# Altium footprint library 3D.PcbLib: 1 footprints
Each footprint in its own frame and in the unit in brackets; x right, y up, seen from the top. Pads: shape width x height; smd on the part's side, far side on the other; paste and mask are expansions set on the pad; w line width, h text height; cw(c..) or ccw(c..) is an arc to the next point about the centre after c.
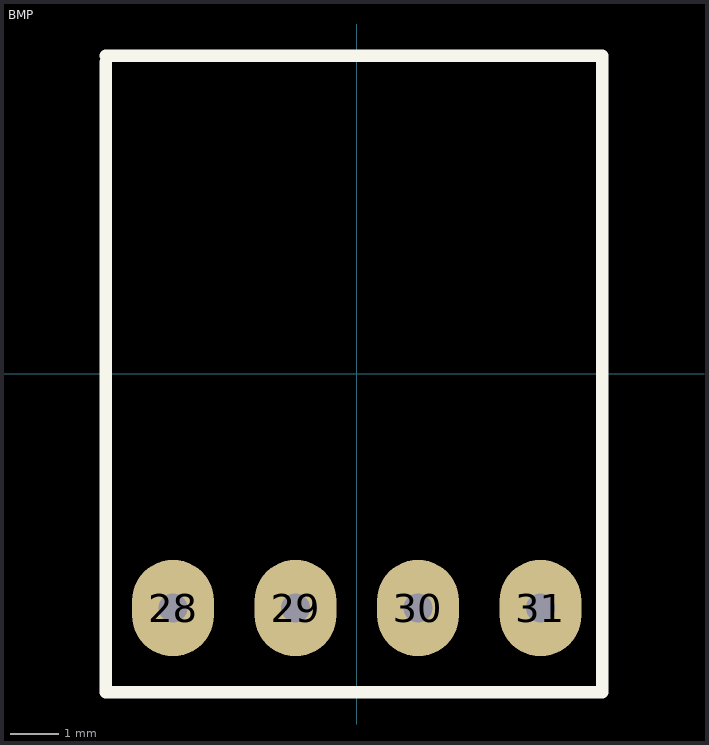
[diagram p0: the footprint, top view; thin cyan lines are the x and y axes]

## BMP [mm]
pads (4):
  oval 1.7x2 hole 0.6: 28(-3.81,-4.858) 29(-1.27,-4.858) 30(1.27,-4.858) 31(3.81,-4.858)
Top Overlay:
  lines w0.254: -5.207,6.469 -5.207,-6.604 5.093,-6.604 5.093,6.596 -5.207,6.596
3D body "bmp180.SLDPRT": height 1.66, standoff -1, extent -5.334,-5.842 5.116,7.458